# Altium footprint library misc.PcbLib: 20 footprints (part 1 of 2)
Each footprint in its own frame and in the unit in brackets; x right, y up, seen from the top. Pads: shape width x height; smd on the part's side, far side on the other; paste and mask are expansions set on the pad; w line width, h text height; cw(c..) or ccw(c..) is an arc to the next point about the centre after c.
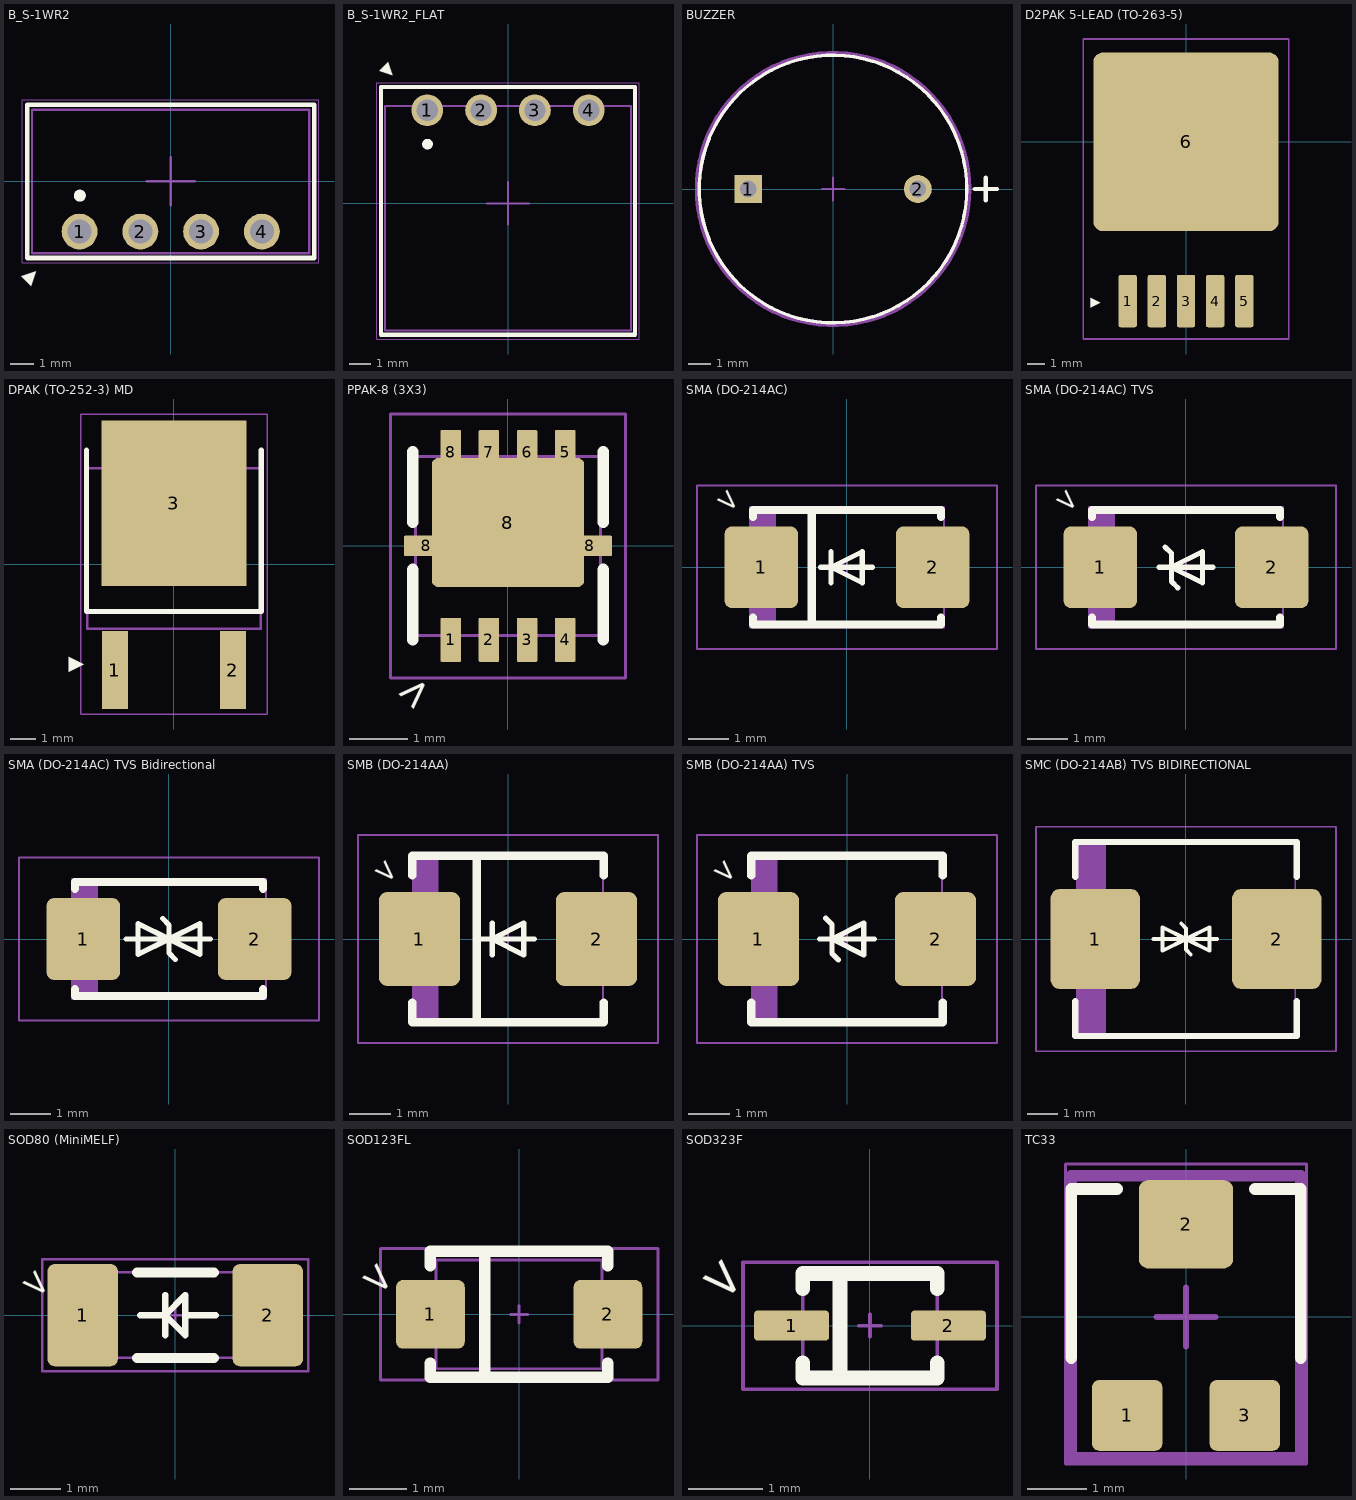
[diagram p0: the footprints below, top view; thin cyan lines are the x and y axes]

## B_S-1WR2 [mm]
pads (4):
  round 1.5 hole 1 mask+0.05: 1(-3.81,-2.1) 2(-1.27,-2.1) 3(1.27,-2.1) 4(3.81,-2.1)
Top Overlay:
  circle w0.25: c-3.8,-0.6 r0.125
  lines w0.2: -6,-3.2 -6,3.2 6,3.2 6,-3.2 -6,-3.2
  text "▲" at -6.342,-4.042 h1
Top Assembly (Mech3):
  lines w0.1: -5.8,-3 5.8,-3 5.8,3 -5.8,3 -5.8,-3
Top Courtyard:
  lines w0.05: -6.2,-3.4 -6.2,3.4 6.2,3.4 6.2,-3.4 -6.2,-3.4
Top Component Center:
  lines w0.1: -1,0 1,0 ; 0,-1 0,1
3D body "DC_DC_ISO_B_S_1W.stp": height 4.1, standoff -10, extent -5.8,-3 5.8,3

## B_S-1WR2_FLAT [mm]
pads (4):
  round 1.5 hole 1 mask+0.05: 1(-3.81,4.4) 2(-1.27,4.4) 3(1.27,4.4) 4(3.81,4.4)
Top Overlay:
  circle w0.25: c-3.8,2.8 r0.125
  lines w0.2: -6,-6.2 -6,5.5 6,5.5 6,-6.2 -6,-6.2
  text "▲" at -5.721,6.763 h1
Top Assembly (Mech3):
  lines w0.1: -5.8,-6 -5.8,4.6 5.8,4.6 5.8,-6 -5.8,-6
Top Courtyard:
  lines w0.05: -6.2,-6.4 -6.2,5.7 6.2,5.7 6.2,-6.4 -6.2,-6.4
Top Component Center:
  lines w0.1: -1,0 1,0 ; 0,-1 0,1
3D body "BxxxxS-01_Angle.step": height 6, standoff -1.93, extent -5.8,-6.019 5.8,4.6

## BUZZER [mm]
pads (2):
  rect 1.25x1.25 hole 0.75 paste-2539.97 mask+0.05: 1(-3.8,0)
  round 1.25 hole 0.75 paste-2539.97 mask+0.05: 2(3.8,0)
Top Overlay:
  circle w0.15: c0,0 r6
  lines w0.2: 6.35,0 7.35,0 ; 6.85,-0.5 6.85,0.5
Top Assembly (Mech3):
  circle w0.15: c0,0 r6
Top Courtyard:
  lines w0.2: -6.1,0 cw(c0,0) 6.1,0 cw(c0,0) -6.1,0
Top Component Center:
  lines w0.1: -0.5,0 0.5,0 ; 0,-0.5 0,0.5
3D body "Speak_Multicomp_Pro_MCKPX-G1203A-K4056_eec.STEP": height 0.25, standoff 0, extent -6.1,-6.1 6.1,6.1

## D2PAK 5-LEAD (TO-263-5) [mm]
pads (6):
  rrect20% 1.07x3.05 smd mask+0.05: 1(-3.4,-9.29) 2(-1.7,-9.29) 3(0,-9.29) 4(1.7,-9.29) 5(3.4,-9.29)
  rrect10% 10.8x10.41 smd mask+0.05: 6(0,0)
Top Overlay:
  text "▲" at -5.664,-9.083 h1
Top Courtyard:
  lines w0.1: -6,-11.5 6,-11.5 6,6 -6,6 -6,-11.5
Top Component Center:
  lines w0.1: -0.5,0 0.5,0 ; 0,-0.5 0,0.5
3D body "TO263-5-1.stp": height 4.22, standoff 0, extent -4.911,-10.061 4.911,4.541

## DPAK (TO-252-3) MD [mm] "D-PAK, 3-Pads, Body 6,20x6,71mm (max), IPC Medium Density"
height 2.39
pads (3):
  rect 1x3 smd mask+0.05: 1(-2.28,-4.1) 2(2.28,-4.1)
  rect 5.6x6.4 smd mask+0.05: 3(0,2.35)
Top Overlay:
  lines w0.2: -3.376,4.414 -3.376,-1.839 3.376,-1.839 3.376,4.414
  text "▲" at -4.164,-3.583 h1
Top Assembly (Mech3):
  lines w0.1: -3.35,-2.5 -3.35,3.7 3.35,3.7 3.35,-2.5 -3.35,-2.5
Top Courtyard:
  lines w0.05: -3.6,-5.8 -3.6,5.8 3.6,5.8 3.6,-5.8 -3.6,-5.8
Top Component Center:
  lines w0.1: -0.5,0 0.5,0 ; 0,-0.5 0,0.5
3D body "DPAK (TO252-3).step": height 2.39, standoff 0, extent -3.35,-4.57 3.35,5.335

## PPAK-8 (3X3) [mm]
pads (11):
  rrect10% 0.35x0.75 smd paste-100 mask+0.05: 1(-0.975,-1.6) 2(-0.325,-1.6) 3(0.325,-1.6) 4(0.975,-1.6) 5(0.975,1.6) 6(0.325,1.6) 7(-0.325,1.6) 8(-0.975,1.6)
  rrect10% 0.75x0.35 smd paste-100 mask+0.05: 8(-1.397,0) 8(1.397,0)
  rrect10% 2.6x2.2 smd paste-100 mask+0.05: 8(0,0.4)
Top Overlay:
  lines w0.2: -1.625,-1.6 -1.625,-0.4 ; -1.625,0.406 -1.625,1.606 ; 1.625,-1.6 1.625,-0.4 ; 1.625,0.406 1.625,1.606
  text ">" at -1.637,-2.865 h0.5
Top Assembly:
  lines w0.05: -1.575,-1.525 -1.575,1.525 1.575,1.525 1.575,-1.525 -1.575,-1.525
Top Courtyard:
  lines w0.05: -2,-2.25 2,-2.25 2,2.25 -2,2.25 -2,-2.25
Top Component Center:
  lines w0.05: -0.15,0 0.15,0 ; 0,-0.15 0,0.15
3D body "User Library-PowerPAK_1212_Dual.STEP": height 1.01, standoff 0, extent -1.65,-1.65 1.65,1.65

## SMA (DO-214AC) [mm]
pads (2):
  rrect20% 1.8x2 smd mask+0.05: 1(-2.1,0) 2(2.1,0)
Top Overlay:
  lines w0.127: -0.643,0 0.627,0 ; -0.389,-0.381 -0.389,0 ; -0.389,0.381 -0.389,0 ; -0.389,0 0.373,0.381 0.373,0 0.373,-0.381 -0.389,0
  lines w0.2: -2.3,-1.231 -2.3,-1.4 2.3,-1.4 2.3,-1.231 ; -2.3,1.231 -2.3,1.4 2.3,1.4 2.3,1.231 ; -0.864,-1.4 -0.864,1.4
  text ">" at -3.265,1.662 h0.5
Top Assembly:
  rectangle: -2.375,-1.475 -1.736,1.475
  lines w0.05: -2.375,-1.475 2.375,-1.475 2.375,1.475 -2.375,1.475 -2.375,-1.475
Top Courtyard:
  lines w0.05: -3.675,-2 -3.675,2 3.675,2 3.675,-2 -3.675,-2
Top Component Center:
  lines w0.05: -0.15,0 0.15,0 ; 0,-0.15 0,0.15
3D body "SMA (DO-214AC) LD.step": height 2.5, standoff 0, extent -2.595,-1.475 2.595,1.475

## SMA (DO-214AC) TVS [mm]
pads (2):
  rrect20% 1.8x2 smd mask+0.05: 1(-2.1,0) 2(2.1,0)
Top Overlay:
  lines w0.127: -0.658,0 0.658,0 ; -0.512,0.5 -0.358,0.346 -0.358,0 ; -0.204,-0.5 -0.358,-0.346 -0.358,0 ; -0.358,0 0.404,-0.381 0.404,0 0.404,0.381 -0.358,0
  lines w0.2: -2.3,-1.231 -2.3,-1.4 2.3,-1.4 2.3,-1.231 ; -2.3,1.231 -2.3,1.4 2.3,1.4 2.3,1.231
  text ">" at -3.265,1.662 h0.5
Top Assembly:
  rectangle: -2.375,-1.475 -1.736,1.475
  lines w0.05: -2.375,-1.475 -2.375,1.475 2.375,1.475 2.375,-1.475 -2.375,-1.475
Top Courtyard:
  lines w0.05: -3.675,-2 3.675,-2 3.675,2 -3.675,2 -3.675,-2
Top Component Center:
  lines w0.05: -0.15,0 0.15,0 ; 0,-0.15 0,0.15
3D body "SMA (DO-214AC) LD.step": height 2.5, standoff 0, extent -2.595,-1.475 2.595,1.475

## SMA (DO-214AC) TVS Bidirectional [mm]
pads (2):
  rrect20% 1.8x2 smd mask+0.05: 1(-2.1,0) 2(2.1,0)
Top Overlay:
  lines w0.127: -1.054,0 1.016,0 ; -0.154,0.5 0,0.346 0,0 ; 0.154,-0.5 0,-0.346 0,0 ; 0,0 0.762,-0.381 0.762,0 0.762,0.381 0,0 ; 0,0 -0.762,-0.381 -0.762,0 -0.762,0.381 0,0
  lines w0.2: -2.3,-1.231 -2.3,-1.4 2.3,-1.4 2.3,-1.231 ; -2.3,1.231 -2.3,1.4 2.3,1.4 2.3,1.231
Top Assembly:
  rectangle: -2.375,-1.475 -1.736,1.475
  lines w0.05: -2.375,-1.475 2.375,-1.475 2.375,1.475 -2.375,1.475 -2.375,-1.475
Top Courtyard:
  lines w0.05: -3.675,-2 3.675,-2 3.675,2 -3.675,2 -3.675,-2
Top Component Center:
  lines w0.05: -0.15,0 0.15,0 ; 0,-0.15 0,0.15
3D body "SMA (DO-214AC) LD.step": height 2.5, standoff 0, extent -2.595,-1.475 2.595,1.475

## SMB (DO-214AA) [mm] "Molded Diode, 2-Leads, Body 4,31x3,62mm, IPC Low Density"
height 2.5
pads (2):
  rrect20% 1.95x2.25 smd mask+0.05: 1(-2.125,0) 2(2.125,0)
Top Overlay:
  lines w0.127: -0.635,0 0.635,0 ; -0.381,-0.381 -0.381,0 ; -0.381,0.381 -0.381,0 ; -0.381,0 0.381,-0.381 0.381,0 0.381,0.381 -0.381,0
  lines w0.2: -2.3,-1.525 -2.3,-2 2.3,-2 2.3,-1.525 ; -2.3,1.525 -2.3,2 2.3,2 2.3,1.525 ; -0.75,-2 -0.75,2
  text ">" at -3.265,1.662 h0.5
Top Assembly:
  rectangle: -2.285,-1.97 -1.67,1.97
  lines w0.05: -2.285,-1.97 2.285,-1.97 2.285,1.97 -2.285,1.97 -2.285,-1.97
Top Courtyard:
  lines w0.05: -3.6,-2.5 3.6,-2.5 3.6,2.5 -3.6,2.5 -3.6,-2.5
Top Component Center:
  lines w0.05: -0.15,0 0.15,0 ; 0,-0.15 0,0.15
3D body "SMB.step": height 2.5, standoff 0, extent -2.505,-1.97 2.505,1.97

## SMB (DO-214AA) TVS [mm] "Molded Diode, 2-Leads, Body 4,31x3,62mm, IPC Low Density"
height 2.5
pads (2):
  rrect20% 1.95x2.25 smd mask+0.05: 1(-2.125,0) 2(2.125,0)
Top Overlay:
  lines w0.127: -0.658,0 0.658,0 ; -0.512,0.5 -0.358,0.346 -0.358,0 ; -0.204,-0.5 -0.358,-0.346 -0.358,0 ; -0.358,0 0.404,0.381 0.404,0 0.404,-0.381 -0.358,0
  lines w0.2: -2.3,-1.525 -2.3,-2 2.3,-2 2.3,-1.525 ; -2.3,1.525 -2.3,2 2.3,2 2.3,1.525
  text ">" at -3.265,1.662 h0.5
Top Assembly:
  rectangle: -2.285,-1.97 -1.67,1.97
  lines w0.05: -2.285,-1.97 2.285,-1.97 2.285,1.97 -2.285,1.97 -2.285,-1.97
Top Courtyard:
  lines w0.05: -3.6,-2.5 3.6,-2.5 3.6,2.5 -3.6,2.5 -3.6,-2.5
Top Component Center:
  lines w0.05: -0.15,0 0.15,0 ; 0,-0.15 0,0.15
3D body "SMB.step": height 2.5, standoff 0, extent -2.505,-1.97 2.505,1.97

## SMC (DO-214AB) TVS BIDIRECTIONAL [mm] "Molded Diode, 2-Leads, Body 6,86x5,91mm, IPC Low Density"
height 2.62
pads (2):
  rrect20% 2.9x3.25 smd mask+0.05: 1(-2.95,0) 2(2.95,0)
Top Overlay:
  lines w0.127: -1.054,0 1.016,0 ; -0.154,0.5 0,0.346 0,0 ; 0.154,-0.5 0,-0.346 0,0 ; 0,0 0.762,-0.381 0.762,0 0.762,0.381 0,0 ; 0,0 -0.762,-0.381 -0.762,0 -0.762,0.381 0,0
  lines w0.2: -3.6,-2.025 -3.6,-3.15 3.6,-3.15 3.6,-2.025 ; -3.6,2.025 -3.6,3.15 3.6,3.15 3.6,2.025
Top Assembly:
  rectangle: -3.555,-3.11 -2.599,3.11
  lines w0.05: -3.555,-3.11 -3.555,3.11 3.555,3.11 3.555,-3.11 -3.555,-3.11
Top Courtyard:
  lines w0.05: -4.875,-3.65 -4.875,3.65 4.875,3.65 4.875,-3.65 -4.875,-3.65
Top Component Center:
  lines w0.05: -0.15,0 0.15,0 ; 0,-0.15 0,0.15
3D body "SMC (DO-214AB).step": height 2.62, standoff 0, extent -3.775,-3.11 3.775,3.11

## SOD80 (MiniMELF) [mm] "SOD80 - MiniMELF - MMA - DO-213AA"
pads (2):
  rrect20% 1.4x2.03 smd mask+0.05: 1(-1.84,0) 2(1.84,0)
Top Overlay:
  lines w0.127: -0.7,0 -0.2,0 ; -0.2,-0.4 -0.2,0.4 ; 0.2,0 0.8,0 ; -0.2,0 0.2,0.4 0.2,-0.4 -0.2,0
  lines w0.2: -0.765,-0.85 0.765,-0.85 ; -0.765,0.85 0.765,0.85
  text ">" at -3.105,0.662 h0.5
Top Assembly:
  lines w0.05: -1.855,-0.85 1.855,-0.85 1.855,0.85 -1.855,0.85 -1.855,-0.85
Top Courtyard:
  lines w0.05: -2.64,-1.115 -2.64,1.115 2.64,1.115 2.64,-1.115 -2.64,-1.115
Top Component Center:
  lines w0.05: -0.15,0 0.15,0 ; 0,-0.15 0,0.15
3D body "Diode_Microsemi_JANTX1N4148UR-1_eec.STEP": height 1.7, standoff 0, extent -1.753,-0.847 1.753,0.845

## SOD123FL [mm]
height 1.1
pads (2):
  rrect20% 1.2x1.2 smd mask+0.05: 1(-1.55,0) 2(1.55,0)
Top Overlay:
  lines w0.2: -1.55,-0.85 -1.55,-1.1 1.55,-1.1 1.55,-0.85 ; -1.55,0.85 -1.55,1.1 1.55,1.1 1.55,0.85 ; -0.6,-1.1 -0.6,1.1
  text ">" at -2.815,0.662 h0.5
Top Assembly:
  lines w0.05: -1.45,-0.95 -1.45,0.95 1.45,0.95 1.45,-0.95 -1.45,-0.95
Top Courtyard:
  lines w0.05: -2.425,-1.15 -2.425,1.15 2.425,1.15 2.425,-1.15 -2.425,-1.15
Top Component Center:
  lines w0.05: -0.15,0 0.15,0 ; 0,-0.15 0,0.15
3D body "SOD123FL LD.step": height 1.1, standoff 0, extent -1.825,-0.95 1.825,0.95

## SOD323F [mm]
height 0.75
pads (2):
  rrect20% 1x0.4 smd mask+0.05: 1(-1.05,0) 2(1.05,0)
Top Overlay:
  lines w0.2: -0.9,-0.5 -0.9,-0.7 0.9,-0.7 0.9,-0.5 ; -0.9,0.5 -0.9,0.7 0.9,0.7 0.9,0.5 ; -0.4,-0.7 -0.4,0.7
  text ">" at -2.315,0.662 h0.5
Top Assembly:
  lines w0.05: -0.9,-0.675 0.9,-0.675 0.9,0.675 -0.9,0.675 -0.9,-0.675
Top Courtyard:
  lines w0.05: -1.7,-0.85 1.7,-0.85 1.7,0.85 -1.7,0.85 -1.7,-0.85
Top Component Center:
  lines w0.05: -0.15,0 0.15,0 ; 0,-0.15 0,0.15
3D body "SOD323F MD.step": height 0.75, standoff 0, extent -1.25,-0.675 1.25,0.675

## TC33 [mm] "TC33 - 3 mm SMD Trimpot® Trimming Potentiometer"
height 1
pads (3):
  rrect20% 1.2x1.2 smd paste+0 mask+0.05: 1(-1,-1.675) 3(1,-1.675)
  rrect20% 1.6x1.5 smd paste+0 mask+0.05: 2(0,1.575)
Top Overlay:
  lines w0.2: -1.95,-0.7 -1.95,2.175 -1.175,2.175 ; 1.175,2.175 1.95,2.175 1.95,-0.7
Top Assembly (Mech3):
  lines w0.2: -1.95,-2.4 -1.95,2.4 1.95,2.4 1.95,-2.4 -1.95,-2.4
Top Courtyard:
  lines w0.05: -2.05,-2.375 -2.05,2.425 ; 2.05,-2.375 2.05,2.6 -2.05,2.6 -2.05,-2.5 2.05,-2.5 2.05,2.425
Top Component Center:
  lines w0.1: -0.5,0 0.5,0 ; 0,-0.5 0,0.5
3D body "Res_Bourns_TC33X-2-104E_eec.STEP": height 0.25, standoff 0, extent -2.05,-2.375 2.05,2.425